# Altium footprint library WP934EW-GD.PcbLib: 1 footprints
Each footprint in its own frame and in the unit in brackets; x right, y up, seen from the top. Pads: shape width x height; smd on the part's side, far side on the other; paste and mask are expansions set on the pad; w line width, h text height; cw(c..) or ccw(c..) is an arc to the next point about the centre after c.
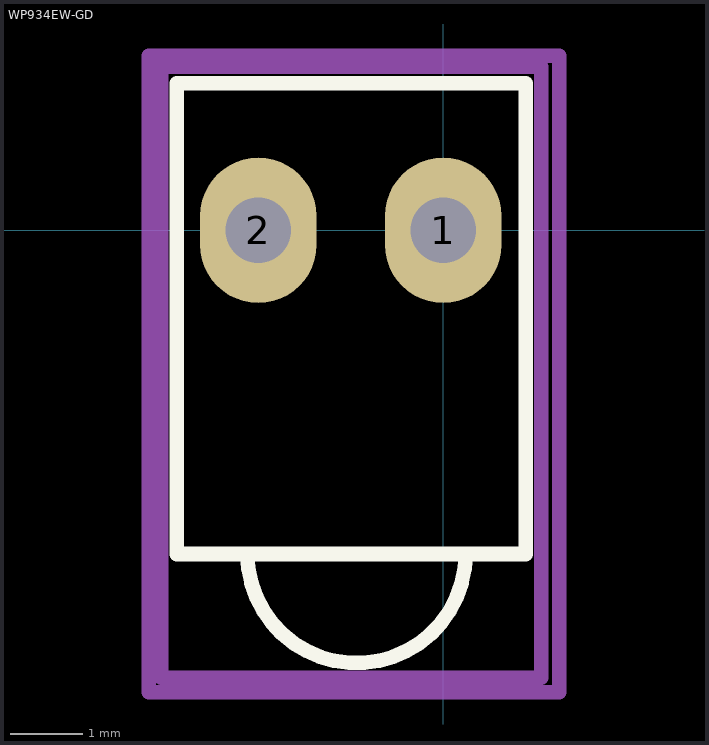
[diagram p0: the footprint, top view; thin cyan lines are the x and y axes]

## WP934EW-GD [mm]
pads (2):
  oval 1.6x2 hole 0.9 mask+0.05: 1(0,0) 2(-2.54,0)
Top Overlay:
  lines w0.2: -2.69,-4.45 ccw(c-1.19,-4.45) 0.31,-4.45 ; -3.665,-4.45 1.135,-4.45 1.135,2.025 -3.665,2.025 -3.665,-4.45
Top Assembly:
  lines w0.2: -3.875,-6.15 1.35,-6.15 1.35,2.25 0.275,2.25 -3.875,2.25 -3.875,-6.15
Top Courtyard:
  lines w0.2: -4.05,-6.35 -4.05,2.4 -0.175,2.4 1.6,2.4 1.6,-6.35 -4.05,-6.35
3D body "User Library-LED green-1.step": height 7.4, standoff -3.4, extent -3.565,-5.875 1.035,1.925